# EAGLE library part MARDUINO_PWR8 (library Arduino-shield-scaffolds)
Arduino Modular Shield Scaffold Uno/MEGA Rev3 8-pin power connector (includes IOREF)
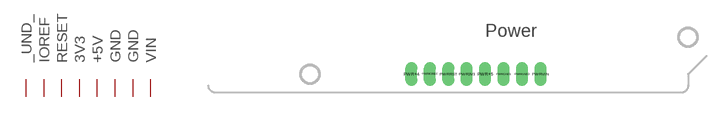
[diagram p5: symbol with the pads of MARDUINO_R3PWR; footprint MARDUINO_R3PWR]

Designator prefix -; gates G$1=ARDUINO_PWRBASE G$2=ARDUINO-EXTPWR G$3=ARDUINO-R3PWR

## MARDUINO_PWR8  [MARDUINO_R3PWR]
PWR3V3  G$2:3V3  pwr
PWR+4  G$3:_UND_  pas
PWR+5  G$1:+5V  pwr
PWRGND1  G$1:GND  pwr
PWRGND2  G$1:GND  pwr
PWRIOREF  G$3:IOREF  out
PWRRST  G$2:RESET  in
PWRVIN  G$1:VIN  pwr

## Footprint MARDUINO_R3PWR (pad centres in mm)
Arduino Modular Shield Scaffold Uno/MEGA Rev3 8-pin power pins (includes IOREF)
drill 1.1 long: PWR3V3 35.56,2.54; PWR+4 27.94,2.54; PWR+5 38.1,2.54; PWRGND1 40.64,2.54; PWRGND2 43.18,2.54; PWRIOREF 30.48,2.54; PWRRST 33.02,2.54; PWRVIN 45.72,2.54